# Altium footprint library SIM800C_V1.2.PcbLib: 12 footprints
Each footprint in its own frame and in the unit in brackets; x right, y up, seen from the top. Pads: shape width x height; smd on the part's side, far side on the other; paste and mask are expansions set on the pad; w line width, h text height; cw(c..) or ccw(c..) is an arc to the next point about the centre after c.
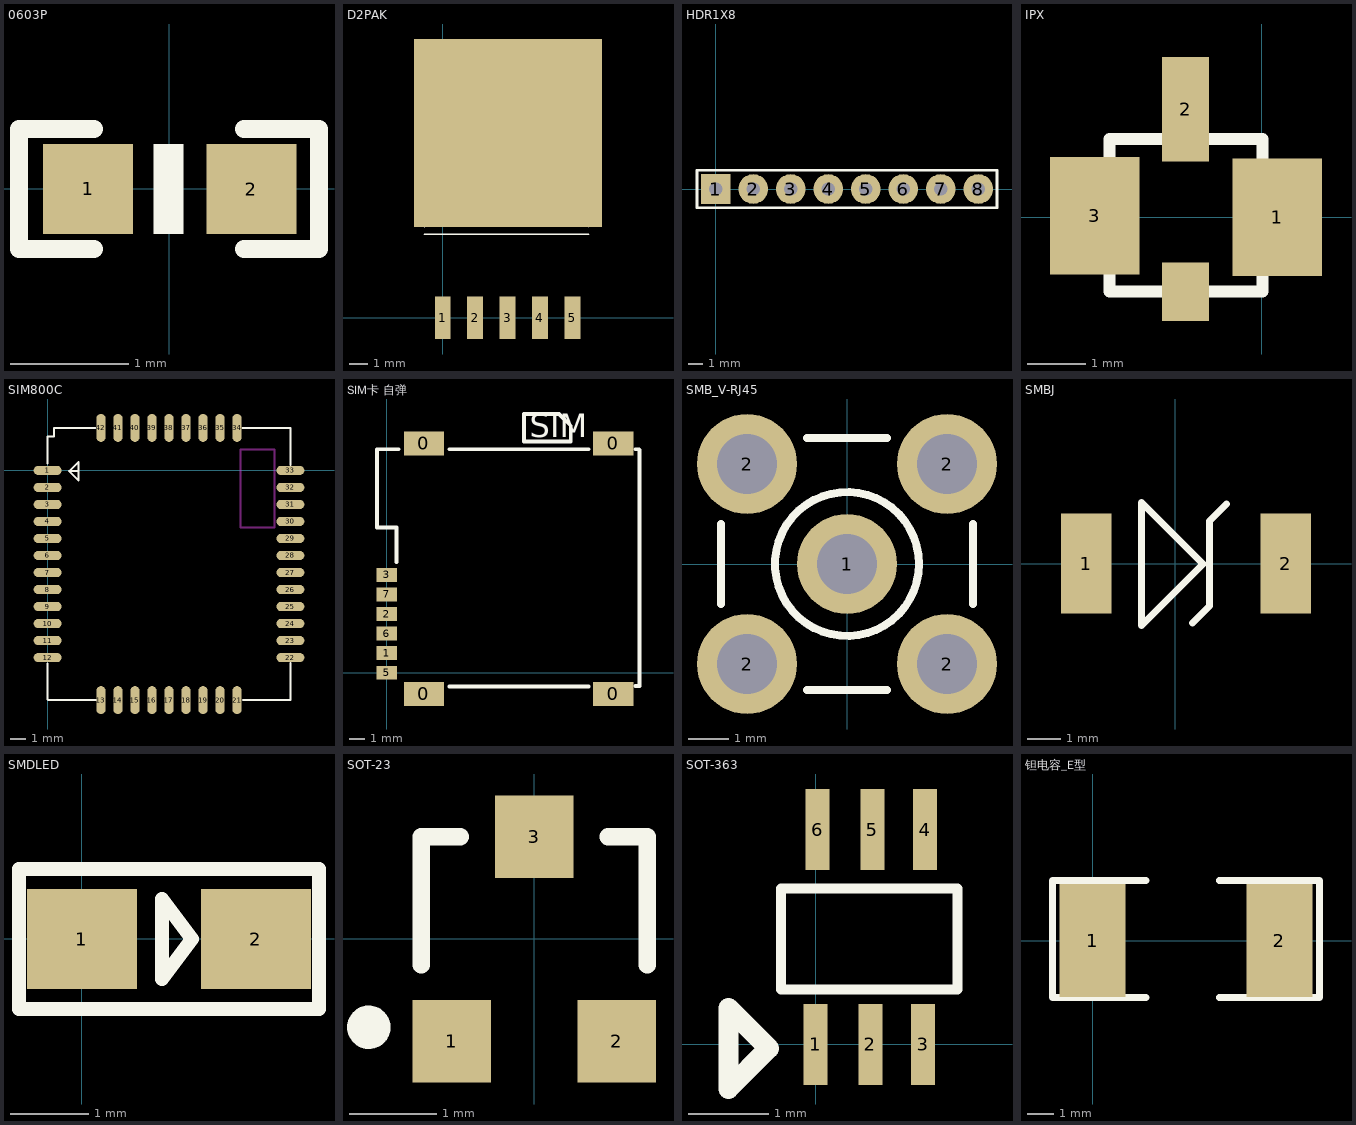
[diagram p0: the footprints below, top view; thin cyan lines are the x and y axes]

## 0603P [mil]
pads (2):
  rect 30x30 smd: 1(-27,0) 2(27.5,-0.06)
Top Overlay:
  region: 4.91,-15.06 4.91,14.94 -5.09,14.94 -5.09,-15.06
  lines w6: -25,-20.06 -50,-20.06 -50,19.94 -25,19.94 ; 25,-20.06 50,-20.06 50,19.94 25,19.94

## D2PAK [mil]
pads (6):
  rect 34x90 smd: 1(0,0) 2(69,0) 3(138,0) 4(207,0) 5(276,0)
  rect 400x400 smd: ""(139,394)
Top Overlay:
  lines w3.94: -39,178 311,178 ; -39,194 -39,529 ; 311,194 311,529
  lines w4: -40,590 310,590 ; -39,505 -39,581 ; 311,529 311,576

## HDR1X8 [mm] "Connector; Header; 8 Position"
height 10.16
pads (8):
  rect 2x2 hole 0.9: 1(0,0)
  round 2 hole 0.9: 2(2.54,0) 3(5.08,0) 4(7.62,0) 5(10.16,0) 6(12.7,0) 7(15.24,0) 8(17.78,0)
Top Overlay:
  lines w0.2: -1.27,-1.27 -1.27,1.27 19.05,1.27 19.05,-1.27 -1.27,-1.27
3D body: height 2.03, standoff 0.25, extent -1.37,-1.37 19.15,1.37
3D body: height 4.57, standoff 0, extent -0.507,-0.507 0.507,0.508
3D body: height 4.57, standoff 0, extent 2.033,-0.507 3.047,0.508
3D body: height 4.57, standoff 0, extent 4.573,-0.507 5.587,0.508
3D body: height 4.57, standoff 0, extent 7.113,-0.507 8.127,0.508
3D body: height 4.57, standoff 0, extent 9.653,-0.507 10.667,0.508
3D body: height 4.57, standoff 0, extent 12.193,-0.507 13.207,0.508
3D body: height 4.57, standoff 0, extent 14.733,-0.507 15.747,0.508
3D body: height 4.57, standoff 0, extent 17.273,-0.507 18.287,0.508

## IPX [mil]
pads (4):
  rect 60x78.74 smd: 1(10.36,0) 3(-112,1)
  rect 31.5x70 smd: 2(-51,72.36)
  rect 31.5x39.37 smd: ""(-51,-50)
Top Overlay:
  lines w8: -102,-50 -102,52.36 0.36,52.36 0.36,-50 -102,-50

## SIM800C [mm]
pads (42):
  oval 1.8x0.6 smd: 1(0,0) 2(0,-1.1) 3(0,-2.2) 4(0,-3.3) 5(0,-4.4) 6(0,-5.5) 7(0,-6.6) 8(0,-7.7) 9(0,-8.8) 10(0,-9.9) 11(0,-11) 12(0,-12.1) 22(15.7,-12.1) 23(15.7,-11) 24(15.7,-9.9) 25(15.7,-8.8) 26(15.7,-7.7) 27(15.7,-6.6) 28(15.7,-5.5) 29(15.7,-4.4) 30(15.7,-3.3) 31(15.7,-2.2) 32(15.7,-1.1) 33(15.7,0)
  oval 0.6x1.8 smd: 13(3.45,-14.85) 14(4.55,-14.85) 15(5.65,-14.85) 16(6.75,-14.85) 17(7.85,-14.85) 18(8.95,-14.85) 19(10.05,-14.85) 20(11.15,-14.85) 21(12.25,-14.85) 34(12.25,2.75) 35(11.15,2.75) 36(10.05,2.75) 37(8.95,2.75) 38(7.85,2.75) 39(6.75,2.75) 40(5.65,2.75) 41(4.55,2.75) 42(3.45,2.75)
Top Overlay:
  lines w0.127: 0,-14.808 0,-12.471 ; 0,0.432 0,2.21 0.406,2.21 0.406,2.743 3.124,2.743 ; 0.025,-14.834 3.124,-14.834 ; 2.007,-0.051 1.397,-0.051 ; 12.598,2.743 15.697,2.743 15.697,0.356 ; 12.649,-14.859 15.697,-14.859 15.697,-12.446 ; 1.397,-0.051 2.007,0.559 2.007,-0.66 1.397,-0.051
Keep-Out Layer:
  lines w0.127: 12.471,1.372 12.471,-3.683 14.681,-3.683 14.681,1.346 12.522,1.346

## SIM卡 自弹 [mm]
pads (10):
  rect 2.61x1.56 smd: 0(2.413,-1.372) 0(2.413,14.884) 0(14.7,-1.372) 0(14.7,14.884)
  rect 1.34x0.9 smd: 1(0,1.27) 2(0,3.81) 3(0,6.35) 5(0,0) 6(0,2.54) 7(0,5.08)
Top Overlay:
  lines w0.254: -0.635,14.452 -0.635,9.423 0.635,9.423 ; -0.635,14.503 0.762,14.503 ; 0.635,7.168 0.635,9.361 ; 4.064,-0.898 13.081,-0.898 ; 4.064,14.503 13.081,14.503 ; 16.129,-0.864 16.383,-0.864 ; 16.129,14.503 16.383,14.503 ; 16.4,-0.864 16.4,14.452 ; 8.89,15.011 8.89,16.789 11.176,16.789 11.938,16.027 11.938,15.011 8.89,15.011
  text "SIM" at 9.271,15.265 h1.52

## SMB_V-RJ45 [mm] "Connector; SMB Straight"
pads (5):
  round 2.5 hole 1.5: 1(0,0) 2(-2.5,-2.5) 2(-2.5,2.5) 2(2.5,-2.5) 2(2.5,2.5)
Top Overlay:
  circle w0.2: c0,0 r1.8
  lines w0.2: -3.15,-1 -3.15,1 ; -1,-3.15 1,-3.15 ; -1,3.15 1,3.15 ; 3.15,-1 3.15,1
Mechanical 1:
  circle w0.025: c0,0 r1.8
  circle w0.025: c0,0 r1.05
  circle w0.025: c0,0 r0.2

## SMBJ [mm]
pads (2):
  rect 1.5x3 smd: 1(-2.667,0) 2(3.302,0)
Top Overlay:
  lines w0.203: 0.508,-1.778 1.016,-1.27 1.016,1.27 1.524,1.778 ; -1.016,-1.854 0.826,-0.013 -1.016,1.829 -1.016,-1.854

## SMDLED [mm]
pads (2):
  rect 1.4x1.27 smd: 1(0.001,-0.002) 2(2.211,-0.002)
Top Overlay:
  lines w0.178: 3.012,0.887 3.011,0.887 ; 3.011,0.887 -0.799,0.887 -0.799,-0.002 -0.799,-0.891 3.011,-0.891 3.011,0.887 ; 1.017,-0.51 1.398,-0.002 1.017,0.506 1.017,-0.51

## SOT-23 [mm]
height 1.1
pads (3):
  rect 0.9x0.95 smd: 1(-0.95,-1.175) 2(0.95,-1.175) 3(0,1.175)
Top Overlay:
  circle w0.25: c-1.903,-1.016 r0.125
  lines w0.2: -1.3,-0.3 -1.3,1.175 -0.85,1.175 ; 0.85,1.175 1.3,1.175 1.3,-0.3

## SOT-363 [mil]
pads (6):
  rect 11.81x40 smd: 1(0,0) 2(27,0) 3(53,0) 4(54,106) 5(28,106) 6(1,106)
Top Overlay:
  lines w5: 70,27 -17,27 -17,77 70,77 70,28
  lines w10: -43,-22 -23,-2 -43,18 -43,-22

## 钽电容_E型 [mm]
pads (2):
  rect 2.5x4.3 smd: 1(0,0) 2(7.112,0)
Top Overlay:
  lines w0.254: 2.032,-2.159 -1.524,-2.159 -1.524,2.286 2.032,2.286 ; 4.826,-2.159 8.636,-2.159 8.636,2.286 4.826,2.286